# Altium schematic symbol library SCH - SENSOR - TEMPERATURE - DIODES INC ZNI1000.SCHLIB: 1 symbol
Pins are listed as number, name and electrical type; pins without a type are passive.

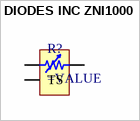
[diagram p0: symbol DIODES INC ZNI1000]

## DIODES INC ZNI1000
designator R?
SMT Resistor
pins: 1, 2, 3 TS